# EAGLE library part TMC603A (library +Praktikanten)
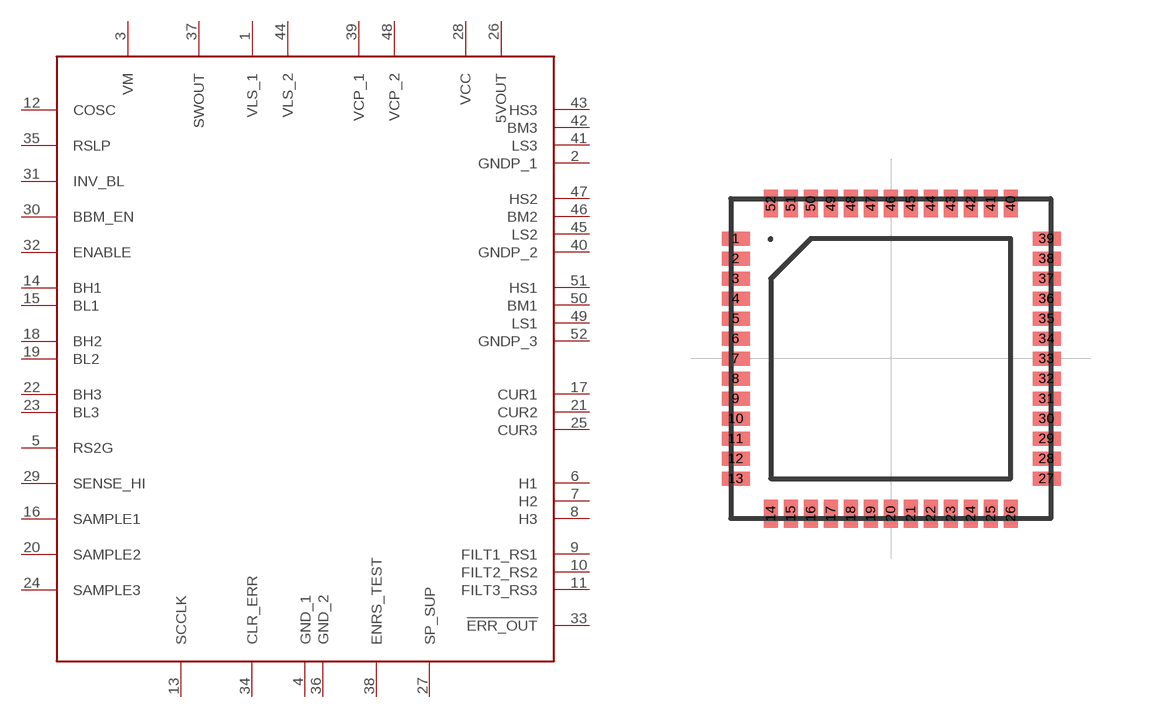
[diagram p3: symbol with the pads of TMC603A; footprint TMC603A]

Designator prefix -

## TMC603A  [TMC603A]
1  VLS_1  pwr
2  GNDP_1  pwr
3  VM  pwr
4  GND_1  pwr
5  RS2G  in
6  H1  out
7  H2  out
8  H3  out
9  FILT1_RS1
10  FILT2_RS2
11  FILT3_RS3
12  COSC
13  SCCLK  in
14  BH1  in
15  BL1  in
16  SAMPLE1  in
17  CUR1  out
18  BH2  in
19  BL2  in
20  SAMPLE2  in
21  CUR2  out
22  BH3  in
23  BL3  in
24  SAMPLE3  in
25  CUR3  out
26  5VOUT  pwr
27  SP_SUP
28  VCC  pwr
29  SENSE_HI  in
30  BBM_EN  in
31  INV_BL  in
32  ENABLE  in
33  !ERR_OUT  out
34  CLR_ERR  in
35  RSLP  in
36  GND_2  pwr
37  SWOUT  out
38  ENRS_TEST
39  VCP_1  pwr
40  GNDP_2  pwr
41  LS3  out
42  BM3  in
43  HS3  out
44  VLS_2  pwr
45  LS2  out
46  BM2  in
47  HS2  out
48  VCP_2  pwr
49  LS1  out
50  BM1  in
51  HS1  out
52  GNDP_3  pwr

## Footprint TMC603A (pad centres in mm)
smd 0.7 x 0.35: 1 0.125,7; 2 0.125,6.5; 3 0.125,6; 4 0.125,5.5; 5 0.125,5; 6 0.125,4.5; 7 0.125,4; 8 0.125,3.5; 9 0.125,3; 10 0.125,2.5; 11 0.125,2; 12 0.125,1.5; 13 0.125,1; 27 7.9,1; 28 7.9,1.5; 29 7.9,2; 30 7.9,2.5; 31 7.9,3; 32 7.9,3.5; 33 7.9,4; 34 7.9,4.5; 35 7.9,5; 36 7.9,5.5; 37 7.9,6; 38 7.9,6.5; 39 7.9,7
smd 0.35 x 0.7: 14 1,0.125; 15 1.5,0.125; 16 2,0.125; 17 2.5,0.125; 18 3,0.125; 19 3.5,0.125; 20 4,0.125; 21 4.5,0.125; 22 5,0.125; 23 5.5,0.125; 24 6,0.125; 25 6.5,0.125; 26 7,0.125; 40 7,7.875; 41 6.5,7.875; 42 6,7.875; 43 5.5,7.875; 44 5,7.875; 45 4.5,7.875; 46 4,7.875; 47 3.5,7.875; 48 3,7.875; 49 2.5,7.875; 50 2,7.875; 51 1.5,7.875; 52 1,7.875